# EAGLE library part 74X4066-4CH-ANALOG-SWITCH (library FlashPCB_ICs)
74x4066-4CH-ANALOG-SWITCH - Quad Analog Switch Technical Specifications: 74x4066 architecture Diode Protected Inputs/Outputs Component Search: M74HCT4066ADTR2G <https://www.flashpcb.com/components> Datasheet: MC74HCT4066A Quad Analog Switch/ Multiplexer/Demultiplexer with LSTTL Compatible Inputs <https://www.onsemi.com/pdf/datasheet/mc74hct4066a-d.pdf>
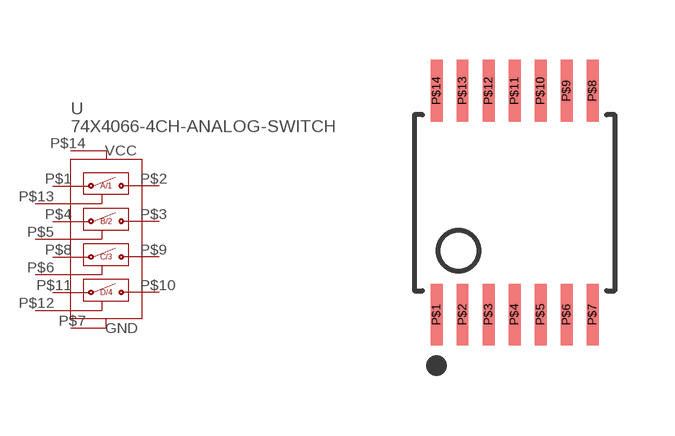
[diagram p6: symbol with the pads of 14-TSSOP(4.4MMX5.0MM); footprint 14-TSSOP(4.4MMX5.0MM)]

Designator prefix U

## 74X4066-4CH-ANALOG-SWITCH_ONSEMI  [14-TSSOP(4.4MMX5.0MM)]
P$1  AX
P$2  AY
P$3  BY
P$4  BX
P$5  ENB
P$6  ENC
P$7  GND
P$8  CX
P$9  CY
P$10  DY
P$11  DX
P$12  END
P$13  ENA
P$14  VCC

## 74X4066-4CH-ANALOG-SWITCH_NEXPERIA  [14-TSSOP(4.4MMX5.0MM)]
P$1  AX
P$2  AY
P$3  BY
P$4  BX
P$5  ENB
P$6  ENC
P$7  GND
P$8  CX
P$9  CY
P$10  DX
P$11  DY
P$12  END
P$13  ENA
P$14  VCC

## Footprint 14-TSSOP(4.4MMX5.0MM) (pad centres in mm)
smd 0.3 x 1.55: P$1 -1.95,-2.8; P$2 -1.3,-2.8; P$3 -0.65,-2.8; P$4 0,-2.8; P$5 0.65,-2.8; P$6 1.3,-2.8; P$7 1.95,-2.8; P$8 1.95,2.8; P$9 1.3,2.8; P$10 0.65,2.8; P$11 0,2.8; P$12 -0.65,2.8; P$13 -1.3,2.8; P$14 -1.95,2.8